# Altium footprint library Display.PcbLib: 2 footprints
Each footprint in its own frame and in the unit in brackets; x right, y up, seen from the top. Pads: shape width x height; smd on the part's side, far side on the other; paste and mask are expansions set on the pad; w line width, h text height; cw(c..) or ccw(c..) is an arc to the next point about the centre after c.
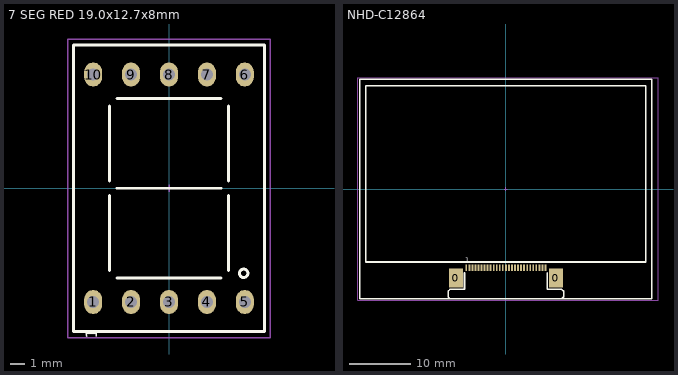
[diagram p0: the footprints below, top view; thin cyan lines are the x and y axes]

## 7 SEG RED 19.0x12.7x8mm [mm]
pads (10):
  oval 1.2x1.6 hole 0.8: 1(-5.08,-7.62) 2(-2.54,-7.62) 3(0,-7.62) 4(2.54,-7.62) 5(5.08,-7.62) 6(5.08,7.62) 7(2.54,7.62) 8(0,7.62) 9(-2.54,7.62) 10(-5.08,7.62)
Top Overlay:
  circle w0.2: c5,-5.7 r0.283
  lines w0.2: -4,-5.5 -4,-0.5 ; -4,0.5 -4,5.5 ; -3.5,-6 3.5,-6 ; -3.5,0 3.5,0 ; -3.5,6 3.5,6 ; 4,-5.5 4,-0.5 ; 4,0.5 4,5.5 ; -6.4,-9.6 6.4,-9.6 6.4,9.6 -6.4,9.6 -6.4,-9.6
  text "1" at -4.8,-10.1 h0.76
Mechanical 15:
  lines w0.1: -0.25,0 0.25,0 ; 0,-0.25 0,0.25 ; -6.8,-10 -6.8,10 6.8,10 6.8,-10 -6.8,-10
3D body: height 8, standoff -6.3, extent -6.3,-9.5 6.3,9.5

## NHD-C12864 [mm] "LCD Graphic 128x64"
pads (29):
  rect 2.3x3.1 smd: 0(-8.2,-14.65) 0(8.2,-14.65)
  rect 0.3x1.1 smd: 1(-6.5,-12.95) 2(-6,-12.95) 3(-5.5,-12.95) 4(-5,-12.95) 5(-4.5,-12.95) 6(-4,-12.95) 7(-3.5,-12.95) 8(-3,-12.95) 9(-2.5,-12.95) 10(-2,-12.95) 11(-1.5,-12.95) 12(-1,-12.95) 13(-0.5,-12.95) 14(0,-12.95) 15(0.5,-12.95) 16(1,-12.95) 17(1.5,-12.95) 18(2,-12.95) 19(2.5,-12.95) 20(3,-12.95) 21(3.5,-12.95) 22(4,-12.95) 23(4.5,-12.95) 24(5,-12.95) 25(5.5,-12.95) 26(6,-12.95) 27(6.5,-12.95)
Top Overlay:
  lines w0.254: -6.8,-13.75 -6.8,-16.5 -9.2,-16.5 -9.5,-16.8 -9.5,-17.7 -9.2,-18 9.2,-18 9.5,-17.7 9.5,-16.8 9.2,-16.5 6.8,-16.5 6.8,-13.75 ; -24,-18 -24,18 24,18 24,-18 -24,-18 ; -23,-12 -23,17 23,17 23,-12 -23,-12
  text "1" at -6.7,-12 h0.76
Mechanical 15:
  lines w0.1: -0.25,0 0.25,0 ; 0,-0.25 0,0.25 ; -24.3,-18.3 25,-18.3 25,18.3 -24.3,18.3 -24.3,-18.3
3D body: height 10.4, standoff 0.05, extent -24.001,-44.585 24.79,18.025